# EAGLE library part DIP6PIN (library mtoriginal)
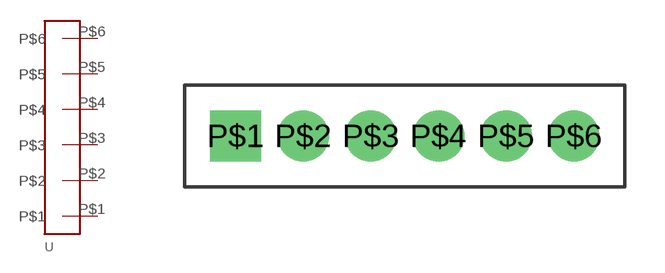
[diagram p1: symbol with the pads of DIP6PIN; footprint DIP6PIN]

Designator prefix -

## DIP6PIN  [DIP6PIN]
P$1  P$1
P$2  P$2
P$3  P$3
P$4  P$4
P$5  P$5
P$6  P$6

## Footprint DIP6PIN (pad centres in mm)
drill 1 pad 1.93 square: P$1 0,0
drill 1 pad 1.93: P$2 2.54,0; P$3 5.08,0; P$4 7.62,0; P$5 10.16,0; P$6 12.7,0